# Altium schematic symbol library I2C.Schlib: 1 symbol
Pins are listed as number, name and electrical type; pins without a type are passive.

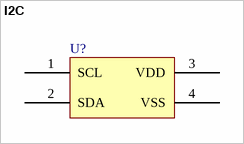
[diagram p0: symbol I2C]

## I2C
designator U?
pins: 1 SCL, 2 SDA, 3 VDD, 4 VSS
1 alternate drawing of the same symbol